# EAGLE library part DECADE-UCS2912 (library DECADE-libraries20151104)
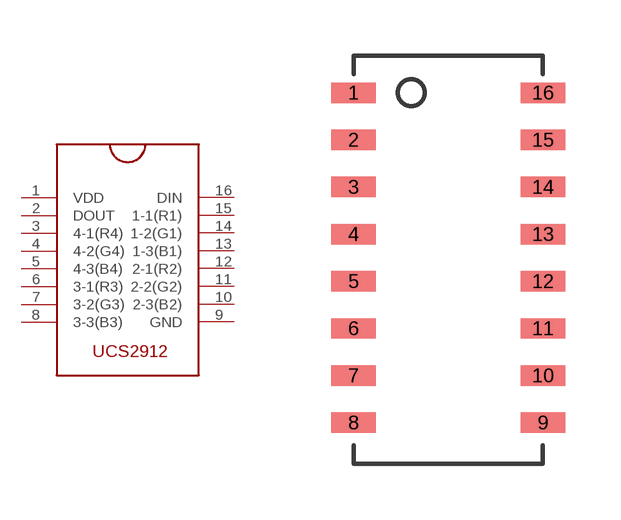
[diagram p9: symbol with the pads of DECADE-UCS2912-SOP16; footprint DECADE-UCS2912-SOP16]

Designator prefix -

## DECADE-UCS2912  [DECADE-UCS2912-SOP16]
1  VDD
2  DOUT
3  4-1(R4)
4  4-2(G4)
5  4-3(B4)
6  3-1(R3)
7  3-2(G3)
8  3-3(B3)
9  GND
10  2-3(B2)
11  2-2(G2)
12  2-1(R2)
13  1-3(B1)
14  1-2(G1)
15  1-1(R1)
16  DIN

## Footprint DECADE-UCS2912-SOP16 (pad centres in mm)
smd 1.2 x 0.55: 1 -2.55,4.5; 2 -2.55,3.23; 3 -2.55,1.96; 4 -2.55,0.69; 5 -2.55,-0.58; 6 -2.55,-1.85; 7 -2.55,-3.12; 8 -2.55,-4.39; 9 2.55,-4.39; 10 2.55,-3.12; 11 2.55,-1.85; 12 2.55,-0.58; 13 2.55,0.69; 14 2.55,1.96; 15 2.55,3.23; 16 2.55,4.5